# Altium footprint library PM_Drive_UI.PcbLib: 16 footprints
Each footprint in its own frame and in the unit in brackets; x right, y up, seen from the top. Pads: shape width x height; smd on the part's side, far side on the other; paste and mask are expansions set on the pad; w line width, h text height; cw(c..) or ccw(c..) is an arc to the next point about the centre after c.
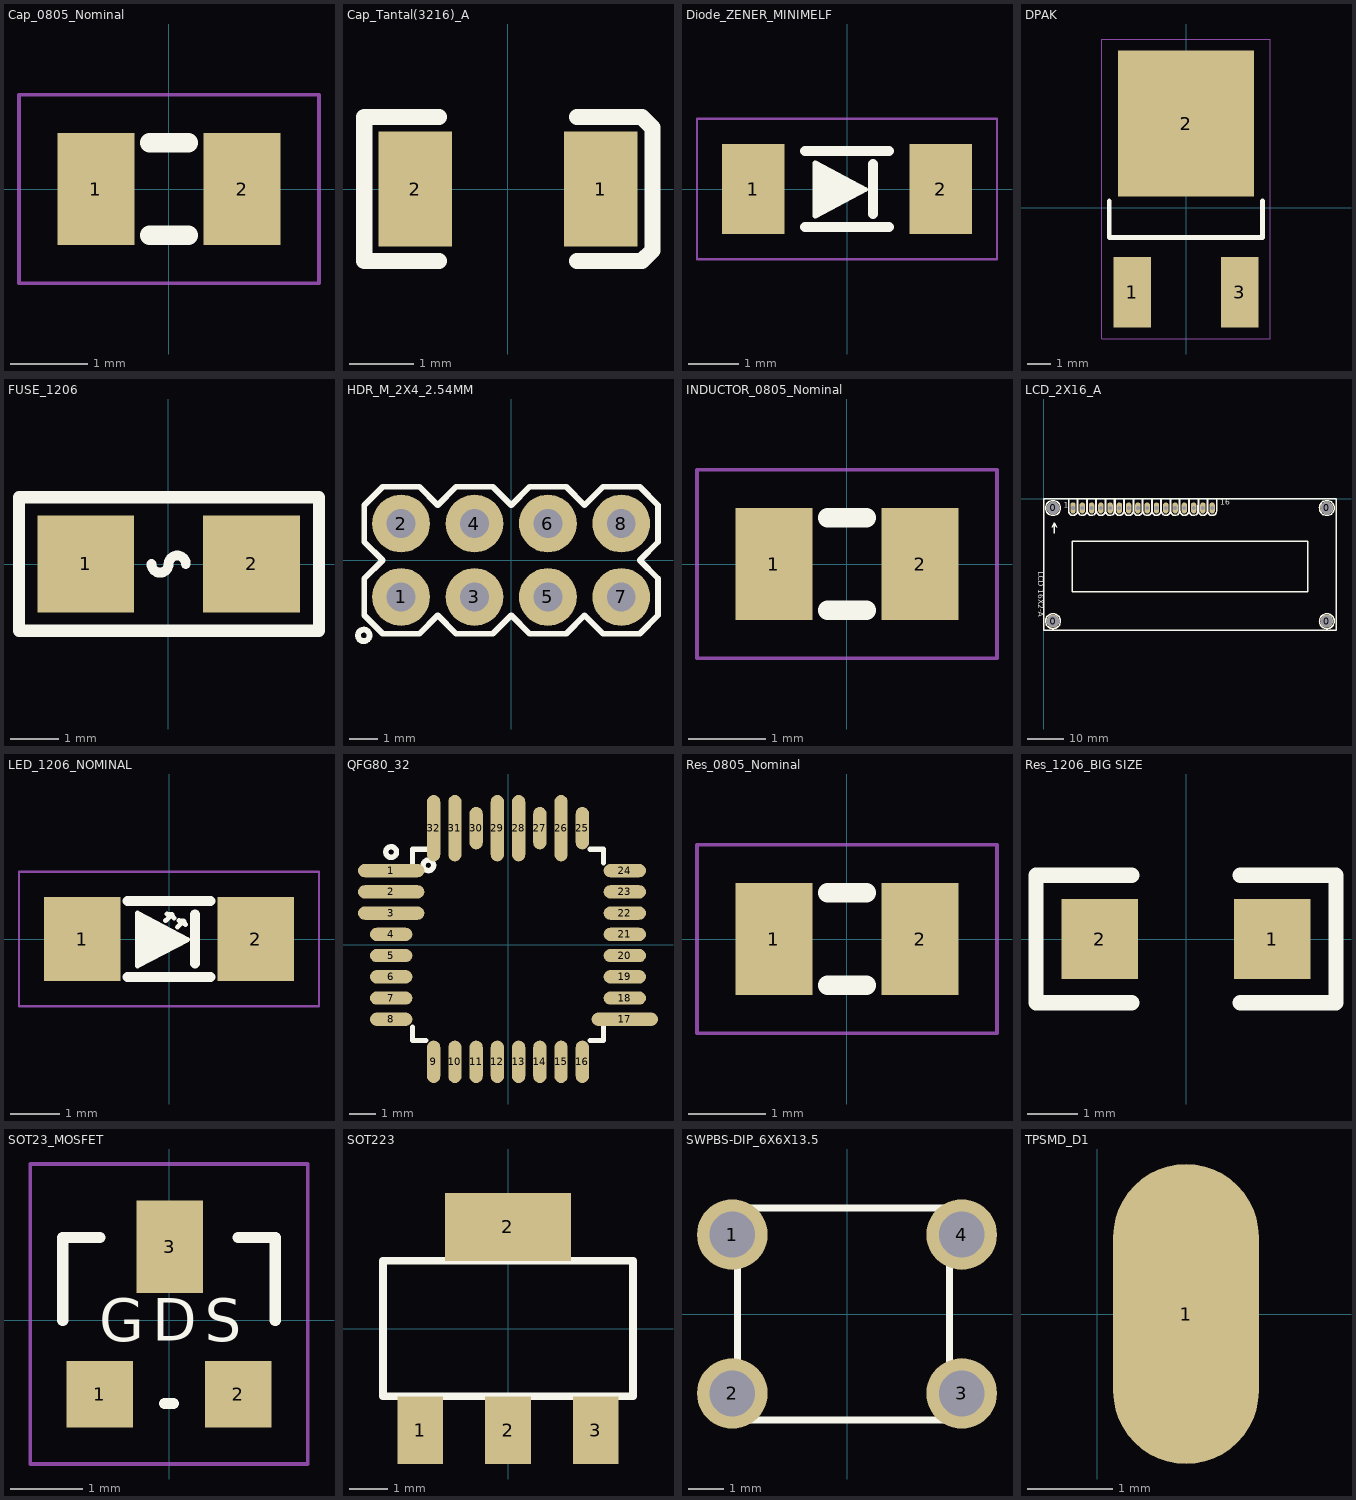
[diagram p0: the footprints below, top view; thin cyan lines are the x and y axes]

## Cap_0805_Nominal [mm]
pads (2):
  rect 1x1.45 smd: 1(-0.95,0) 2(0.95,0)
Top Overlay:
  lines w0.25: -0.254,-0.6 0.254,-0.6 ; -0.254,0.6 0.254,0.6
Mechanical 13:
  lines w0.05: -1.95,-1.225 1.95,-1.225 1.95,1.225 -1.95,1.225 -1.95,-1.225
3D body "User Library-User Library-0805(2012M) Cap.step": height 1.29, standoff 0, extent -1,-0.645 1,0.645

## Cap_Tantal(3216)_A [mm]
pads (2):
  rect 1.15x1.8 smd: 1(1.45,0) 2(-1.45,0)
Top Overlay:
  lines w0.254: -1.079,-1.128 -2.251,-1.128 -2.251,1.128 -1.079,1.128 ; 1.079,-1.126 2.1,-1.126 2.262,-0.964 2.262,0.964 2.1,1.126 ; 1.079,1.13 2.095,1.126
3D body "User Library-AVX_ACASE.step": height 1.71, standoff 0, extent -1.7,-0.84 1.7,0.84

## Diode_ZENER_MINIMELF [mm]
pads (2):
  rect 1.25x1.8 smd: 1(-1.875,0) 2(1.875,0)
Top Overlay:
  region: -0.635,-0.542 -0.635,-0.01 0.372,-0.01
  region: -0.635,0.522 -0.635,-0.01 0.372,-0.01
  lines w0.1: -0.635,-0.542 -0.635,-0.01 -0.635,0.522 0.372,-0.01 -0.635,-0.542
  lines w0.2: -0.838,-0.762 0.838,-0.762 ; -0.838,0.762 0.838,0.762 ; 0.52,-0.496 0.52,0.499
Mechanical 13:
  lines w0.05: -3,-1.4 -3,1.4 3,1.4 3,-1.4 -3,-1.4
3D body "User Library-SOD80C-1.STEP": height 1.61, standoff 0.01, extent -1.825,-0.813 1.875,0.787

## DPAK [mm]
pads (3):
  rect 1.6x3 smd: 1(-2.285,-3.59) 3(2.285,-3.59)
  rect 5.8x6.2 smd: 2(0,3.59)
Top Overlay:
  lines w0.2: -3.268,0.288 -3.268,-1.27 3.259,-1.27 3.259,0.288
Mechanical 13:
  lines w0.05: -3.585,-5.59 3.585,-5.59 3.585,7.19 -3.585,7.19 -3.585,-5.59
3D body "User Library-TO-255AA-1.step": height 2.39, standoff 0, extent -3.365,-4.445 3.365,6.001

## FUSE_1206 [mm]
pads (2):
  rect 2x2 smd: 1(-1.705,0.001) 2(1.724,0.001)
Top Overlay:
  lines w0.203: -0.347,0 ccw(c-0.169,0) 0.009,0 cw(c0.187,0) 0.365,0
  lines w0.254: -3.086,-1.38 -3.086,1.382 3.119,1.382 3.119,-1.38 -3.086,-1.38
3D body "User Library-0ZCJ0035FF2G.step": height 0.81, standoff 0.01, extent -1.691,-0.849 1.709,0.851

## HDR_M_2X4_2.54MM [mm]
pads (8):
  round 2 / inner round 1.5 / far side round 2 hole 1 mask+0.1: 1(-3.81,-1.27) 2(-3.81,1.27) 3(-1.27,-1.27) 4(-1.27,1.27) 5(1.27,-1.27) 6(1.27,1.27) 7(3.81,-1.27) 8(3.81,1.27)
Top Overlay:
  circle w0.2: c-5.1,-2.6 r0.2
  lines w0.2: -5.08,-1.905 -4.445,-2.54 -3.175,-2.54 -2.54,-1.905 -1.905,-2.54 -0.635,-2.54 0,-1.905 0.635,-2.54 1.905,-2.54 2.54,-1.905 3.175,-2.54 4.445,-2.54 5.08,-1.905 5.08,-0.635 4.445,0 5.08,0.635 5.08,1.905 4.445,2.54 3.175,2.54 2.54,1.905 1.905,2.54 0.635,2.54 0,1.905 -0.635,2.54 -1.905,2.54 -2.54,1.905 -3.175,2.54 -4.445,2.54 -5.08,1.905 -5.08,0.635 -4.445,0 -5.08,-0.635 -5.08,-1.905
3D body "User Library-Header_Male_4Pin.STEP": height 8.54, standoff -3, extent -5.08,-2.49 5.08,0
3D body "User Library-Header_Male_4Pin.STEP": height 8.54, standoff -3, extent -5.08,0 5.08,2.49

## INDUCTOR_0805_Nominal [mm]
pads (2):
  rect 1x1.45 smd: 1(-0.95,0) 2(0.95,0)
Top Overlay:
  lines w0.25: -0.254,-0.6 0.254,-0.6 ; -0.254,0.6 0.254,0.6
Mechanical 13:
  lines w0.05: -1.95,-1.225 1.95,-1.225 1.95,1.225 -1.95,1.225 -1.95,-1.225
3D body "INDC2012X06L.step": height 0.55, standoff 0, extent -1.1,-0.725 1.1,0.725

## LCD_2X16_A [mm]
pads (20):
  round 3.5 hole 3.2: 0(2.54,-33.487) 0(2.54,-2.499) 0(77.47,-33.487) 0(77.47,-2.499)
  oct 1.5x3 hole 1: 1(8,-2.5)
  oval 1.5x3 hole 1: 2(10.54,-2.5) 3(13.08,-2.5) 4(15.62,-2.5) 5(18.16,-2.5) 6(20.7,-2.5) 7(23.24,-2.5) 8(25.78,-2.5) 9(28.32,-2.5) 10(30.86,-2.5) 11(33.4,-2.5) 12(35.94,-2.5) 13(38.48,-2.5) 14(41.02,-2.5) 15(43.56,-2.5) 16(46.1,-2.5)
Top Overlay:
  circle w0.381: c77.51,-2.499 r2.032
  circle w0.381: c77.51,-33.487 r2.032
  circle w0.381: c2.54,-33.5 r2.032
  circle w0.381: c2.54,-2.499 r2.032
  circle w0.127: c77.5,-2.499 r1.25
  circle w0.127: c2.5,-2.499 r1.25
  circle w0.127: c77.5,-33.5 r1.25
  circle w0.127: c2.5,-33.5 r1.25
  lines w0.381: 2.286,-7.833 2.921,-6.563 3.556,-7.833 ; 2.921,-9.375 2.921,-6.69 ; 6.806,-0.087 6.806,-3.353 ccw(c7.969,-3.353) 8.035,-4.514 ccw(c8.035,-3.351) 9.196,-3.285 ; 9.196,-3.279 9.203,0 ; 9.346,-0.087 9.346,-3.353 ccw(c10.509,-3.353) 10.575,-4.514 ccw(c10.575,-3.351) 11.736,-3.285 ; 11.736,-3.279 11.743,0 ; 11.886,-0.087 11.886,-3.353 ccw(c13.049,-3.353) 13.115,-4.514 ccw(c13.115,-3.351) 14.276,-3.285 ; 14.276,-3.279 14.283,0 ; 14.426,-0.087 14.426,-3.353 ccw(c15.589,-3.353) 15.655,-4.514 ccw(c15.655,-3.351) 16.816,-3.285 ; 16.816,-3.279 16.823,0 ; 16.966,-0.087 16.966,-3.353 ccw(c18.129,-3.353) 18.195,-4.514 ccw(c18.195,-3.351) 19.356,-3.285 ; 19.356,-3.279 19.363,0 ; 19.506,-0.087 19.506,-3.353 ccw(c20.669,-3.353) 20.735,-4.514 ccw(c20.735,-3.351) 21.896,-3.285 ; 21.896,-3.279 21.903,0 ; 22.046,-0.087 22.046,-3.353 ccw(c23.209,-3.353) 23.275,-4.514 ccw(c23.275,-3.351) 24.436,-3.285 ; 24.436,-3.279 24.443,0 ; 24.586,-0.087 24.586,-3.353 ccw(c25.749,-3.353) 25.815,-4.514 ccw(c25.815,-3.351) 26.976,-3.285 ; 26.976,-3.279 26.983,0 ; 27.126,-0.087 27.126,-3.353 ccw(c28.289,-3.353) 28.355,-4.514 ccw(c28.355,-3.351) 29.516,-3.285 ; 29.516,-3.279 29.523,0 ; 29.666,-0.087 29.666,-3.353 ccw(c30.829,-3.353) 30.895,-4.514 ccw(c30.895,-3.351) 32.056,-3.285 ; 32.056,-3.279 32.063,0 ; 32.206,-0.087 32.206,-3.353 ccw(c33.369,-3.353) 33.435,-4.514 ccw(c33.435,-3.351) 34.596,-3.285 ; 34.596,-3.279 34.603,0 ; 34.746,-0.087 34.746,-3.353 ccw(c35.909,-3.353) 35.975,-4.514 ccw(c35.975,-3.351) 37.136,-3.285 ; 37.136,-3.279 37.143,0 ; 37.286,-0.087 37.286,-3.353 ccw(c38.449,-3.353) 38.515,-4.514 ccw(c38.515,-3.351) 39.676,-3.285 ; 39.676,-3.279 39.683,0 ; 39.826,-0.087 39.826,-3.353 ccw(c40.989,-3.353) 41.055,-4.514 ccw(c41.055,-3.351) 42.216,-3.285 ; 42.216,-3.279 42.223,0 ; 42.366,-0.087 42.366,-3.353 ccw(c43.529,-3.353) 43.595,-4.514 ccw(c43.595,-3.351) 44.756,-3.285 ; 44.756,-3.279 44.763,0 ; 44.906,-0.087 44.906,-3.353 ccw(c46.069,-3.353) 46.135,-4.514 ccw(c46.135,-3.351) 47.296,-3.285 ; 47.296,-3.279 47.303,0 ; 0,-36 0,0 80,0 80,-36 0,-36 ; 7.75,-25.4 72.25,-25.4 72.25,-11.6 7.75,-11.6 7.75,-25.4
  text "LCD 16X2-A" at -2.127,-19.933 h2.54
  text "1" at 5.519,-3.04 h2.54
  text "16" at 48.272,-2.22 h2.54
3D body "LCD2X16--3DModel-STEP-56544.STEP": height 14, standoff 4, extent 0.005,-36.059 80.005,-0.059
3D body "6-146285-6.stp": height 8.58, standoff -1.84, extent 6.934,-3.632 47.168,-1.295

## LED_1206_NOMINAL [mm]
pads (2):
  rect 1.54x1.7 smd: 1(-1.75,0) 2(1.75,0)
Top Overlay:
  region: -0.634,0.521 -0.634,-0.011 0.373,-0.011
  region: -0.634,-0.543 -0.634,-0.011 0.373,-0.011
  lines w0.1: -0.068,0.37 0.059,0.497 ; -0.037,0.506 0.059,0.497 ; 0.096,0.423 0.059,0.497 ; 0.168,0.237 0.295,0.364 ; 0.198,0.372 0.295,0.364 ; 0.332,0.289 0.295,0.364 ; -0.634,-0.543 0.373,-0.011 -0.634,0.521 -0.634,-0.011 -0.634,-0.543
  lines w0.2: -0.837,-0.763 0.84,-0.763 ; -0.837,0.761 0.84,0.761 ; 0.521,-0.496 0.521,0.498
Mechanical 13:
  lines w0.05: -3.02,-1.35 3.02,-1.35 3.02,1.35 -3.02,1.35 -3.02,-1.35
3D body "User Library-LED 1206 BLUE.step": height 1.1, standoff 0, extent -1.6,-0.8 1.6,0.8

## QFG80_32 [mm]
pads (32):
  oval 2.5x0.5 smd: 1(-4.4,2.8) 2(-4.4,2) 3(-4.4,1.2) 17(4.4,-2.8)
  oval 1.6x0.5 smd: 4(-4.4,0.4) 5(-4.4,-0.4) 6(-4.4,-1.2) 7(-4.4,-2) 8(-4.4,-2.8) 18(4.4,-2) 19(4.4,-1.2) 20(4.4,-0.4) 21(4.4,0.4) 22(4.4,1.2) 23(4.4,2) 24(4.4,2.8)
  oval 0.5x1.6 smd: 9(-2.8,-4.4) 10(-2,-4.4) 11(-1.2,-4.4) 12(-0.4,-4.4) 13(0.4,-4.4) 14(1.2,-4.4) 15(2,-4.4) 16(2.8,-4.4) 25(2.8,4.4) 27(1.2,4.4) 30(-1.2,4.4)
  oval 0.5x2.5 smd: 26(2,4.4) 28(0.4,4.4) 29(-0.4,4.4) 31(-2,4.4) 32(-2.8,4.4)
Top Overlay:
  circle w0.2: c-3,3 r0.2
  circle w0.2: c-4.4,3.5 r0.2
  lines w0.2: -3.6,-3.1 -3.6,-3.6 -3.1,-3.6 ; -3.6,3.1 -3.6,3.6 -3.1,3.6 ; 3.1,-3.6 3.6,-3.6 3.6,-3.1 ; 3.1,3.6 3.6,3.6 3.6,3.1
3D body "User Library-LQFP32.STEP": height 1.63, standoff -0.09, extent -4.5,-4.5 4.5,4.5

## Res_0805_Nominal [mm]
pads (2):
  rect 1x1.45 smd: 1(-0.95,0) 2(0.95,0)
Top Overlay:
  lines w0.25: -0.254,-0.6 0.254,-0.6 ; -0.254,0.6 0.254,0.6
Mechanical 13:
  lines w0.05: -1.95,-1.225 1.95,-1.225 1.95,1.225 -1.95,1.225 -1.95,-1.225
3D body "User Library-R SMD 0805.STEP": height 0.47, standoff 0.02, extent -0.999,-0.625 1.001,0.625

## Res_1206_BIG SIZE [mil]
pads (2):
  rect 60x62.99 smd: 1(67.5,0) 2(-67.5,0)
Top Overlay:
  lines w12: -42.5,-50 -117.5,-50 -117.5,50 -42.5,50 ; 42.5,-50 117.5,-50 117.5,50 42.5,50
3D body "User Library-1206.SLDPRT": height 20.67, standoff -0.98, extent -62.36,-31.63 63.63,31.36

## SOT23_MOSFET [mil]
pads (3):
  rect 36x36 smd: 1(-37.5,-40) 2(37.5,-40)
  rect 36x50 smd: 3(0.5,40)
Top Overlay:
  lines w6: -57.5,0 -57.5,45 -37.5,45 ; -2.5,-45 2.5,-45 ; 37.5,45 57.5,45 57.5,0
  text "G" at -37.86,-18.91 h39.37
  text "S" at 19.27,-18.91 h39.37
  text "D" at -9.04,-18.55 h39.37
Mechanical 13:
  lines w1.97: -75.18,-77.68 -75.18,84.69 75.18,84.69 75.18,-77.68 -75.18,-77.68
3D body "CircuitWorks-SOT-23.step": height 41.65, standoff -1.65, extent -59.05,-49.21 59.06,49.22

## SOT223 [mm]
pads (4):
  rect 1.2x1.775 smd: 1(-2.3,-2.663) 2(0,-2.663) 3(2.3,-2.663)
  rect 3.3x1.775 smd: 2(0,2.663)
Top Overlay:
  lines w0.2: -3.275,-1.775 -3.275,1.775 3.275,1.775 3.275,-1.775 -3.275,-1.775
3D body "CircuitWorks-SOT-223.step": height 1.68, standoff 0, extent -3.25,-3.48 3.25,3.48

## SWPBS-DIP_6X6X13.5 [mm]
pads (4):
  round 2 hole 1.3: 1(-3.25,2.25) 2(-3.25,-2.25) 3(3.25,-2.25) 4(3.25,2.25)
Top Overlay:
  lines w0.2: -3.1,-3 2.9,-3 2.9,3 -3.1,3 -3.1,-3
Bottom Overlay:
  circle w0.254: c0,0 r1.75
3D body "Tactal Switch -Thru (6mmx 6mmx15.0mm).stp": height 15, standoff -3.18, extent -4.286,-2.997 4.086,2.998

## TPSMD_D1 [mm]
pads (1):
  oval 1.7x3.5 smd paste-1.016 mask+0.025: 1(1.034,0)